# Altium footprint library РАЗЪЕМЫ-MM.PcbLib: 85 footprints (part 1 of 6)
Each footprint in its own frame and in the unit in brackets; x right, y up, seen from the top. Pads: shape width x height; smd on the part's side, far side on the other; paste and mask are expansions set on the pad; w line width, h text height; cw(c..) or ccw(c..) is an arc to the next point about the centre after c.
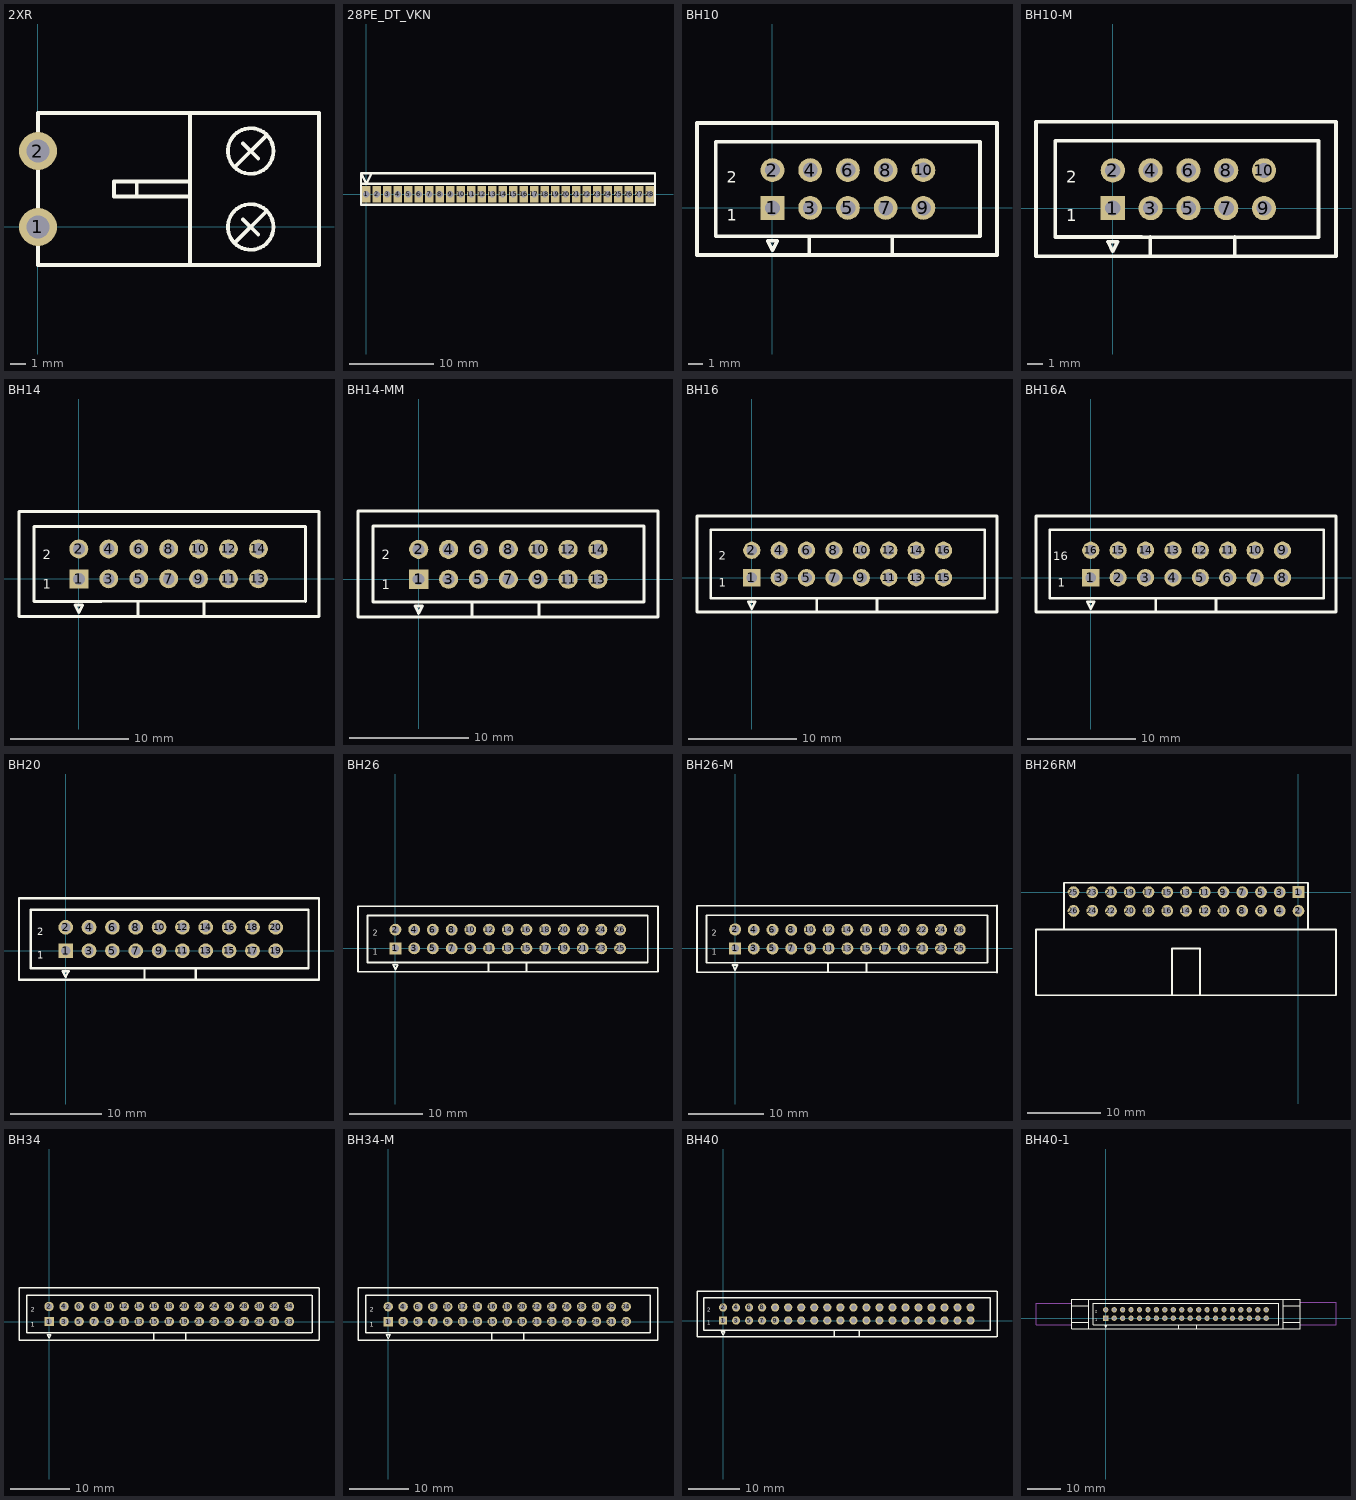
[diagram p0: the footprints below, top view; thin cyan lines are the x and y axes]

## 2XR [mm]
pads (2):
  round 2.5 hole 1.5: 1(0,0) 2(0,5)
Top Overlay:
  circle w0.25: c14,5 r1.5
  circle w0.25: c14,0 r1.5
  lines w0.25: 6.5,2 6.5,3 ; 10,2 5,2 5,3 10,3 ; 13,-1 15,1 ; 13,4 15,6 ; 13.5,0.5 14.5,-0.5 ; 13.5,5.5 14.5,4.5 ; 10,-2.5 18.5,-2.5 18.5,7.5 10,7.5 ; 10,-2.5 0,-2.5 0,7.5 10,7.5 ; 10,-2.5 10,7.5

## 28PE_DT_VKN [mm]
pads (28):
  rect 1x2 hole 0.8: 1(0,0) 2(1.25,0) 3(2.5,0) 4(3.75,0) 5(5,0) 6(6.25,0) 7(7.5,0) 8(8.75,0) 9(10,0) 10(11.25,0) 11(12.5,0) 12(13.75,0) 13(15,0) 14(16.25,0) 15(17.5,0) 16(18.75,0) 17(20,0) 18(21.25,0) 19(22.5,0) 20(23.75,0) 21(25,0) 22(26.25,0) 23(27.5,0) 24(28.75,0) 25(30,0) 26(31.25,0) 27(32.5,0) 28(33.75,0)
Top Overlay:
  lines w0.25: -0.625,1.25 34.375,1.25 ; 0.625,2.5 0,1.25 -0.625,2.5 ; -0.625,2.5 34.375,2.5 34.375,-1.25 -0.625,-1.25 -0.625,2.5

## BH10 [mm]
pads (10):
  rect 1.6x1.6 hole 1: 1(0,0)
  round 1.6 hole 1: 2(0,2.54) 3(2.54,0) 4(2.54,2.54) 5(5.08,0) 6(5.08,2.54) 7(7.62,0) 8(7.62,2.54) 9(10.16,0) 10(10.16,2.54)
Top Overlay:
  lines w0.25: 2.476,-3.175 2.476,-1.905 ; 8.064,-3.175 8.064,-1.905 ; -5.08,-3.175 15.113,-3.175 15.113,5.715 6.985,5.715 -5.08,5.715 -5.08,-3.175 ; -3.81,-1.905 1.905,-1.905 13.97,-1.905 13.97,4.445 -3.81,4.445 -3.81,-1.905 ; -0.318,-2.222 0.318,-2.222 0,-2.857 -0.318,-2.222
  text "2" at -3.08,1.683 h0.79
  text "1" at -3.08,-0.857 h0.79

## BH10-M [mm]
pads (10):
  rect 1.6x1.6 hole 1: 1(0,0)
  round 1.6 hole 1: 2(0,2.5) 3(2.5,0) 4(2.5,2.5) 5(5,0) 6(5,2.5) 7(7.5,0) 8(7.5,2.5) 9(10,0) 10(10,2.5)
Top Overlay:
  lines w0.25: 2.476,-3.175 2.476,-1.905 ; 8.064,-3.175 8.064,-1.905 ; 13.6,4.43 13.61,-1.83 ; 13.6,4.46 -3.81,4.445 -3.81,-1.905 1.905,-1.905 13.61,-1.92 ; 14.73,-3.19 -5.08,-3.175 -5.08,5.715 6.985,5.715 14.73,5.72 ; 14.763,-3.175 14.763,5.715 ; -0.318,-2.222 0.318,-2.222 0,-2.857 -0.318,-2.222
  text "2" at -3.08,1.683 h0.79
  text "1" at -3.08,-0.857 h0.79

## BH14 [mm]
pads (14):
  rect 1.6x1.6 hole 1: 1(0,0)
  round 1.6 hole 1: 2(0,2.54) 3(2.54,0) 4(2.54,2.54) 5(5.08,0) 6(5.08,2.54) 7(7.62,0) 8(7.62,2.54) 9(10.16,0) 10(10.16,2.54) 11(12.7,0) 12(12.7,2.54) 13(15.24,0) 14(15.24,2.54)
Top Overlay:
  lines w0.25: 5.016,-3.175 5.016,-1.905 ; 10.604,-3.175 10.604,-1.905 ; 16.891,4.445 19.22,4.44 ; 17.145,4.445 -3.81,4.445 -3.81,-1.905 1.905,-1.905 19.22,-1.89 ; 18.161,5.715 20.33,5.7 ; 18.415,5.715 6.985,5.715 -5.08,5.715 -5.08,-3.175 20.38,-3.19 ; 19.231,-1.905 19.231,4.445 ; 20.374,-3.175 20.374,5.715 ; -0.318,-2.222 0.318,-2.222 0,-2.857 -0.318,-2.222
  text "2" at -3.08,1.683 h0.79
  text "1" at -3.08,-0.857 h0.79

## BH14-MM [mm]
pads (14):
  rect 1.6x1.6 hole 1: 1(0,0)
  round 1.6 hole 1: 2(0,2.5) 3(2.5,0) 4(2.5,2.5) 5(5,0) 6(5,2.5) 7(7.5,0) 8(7.5,2.5) 9(10,0) 10(10,2.5) 11(12.5,0) 12(12.5,2.5) 13(15,0) 14(15,2.5)
Top Overlay:
  lines w0.25: 4.477,-3.155 4.477,-1.885 ; 10.065,-3.155 10.065,-1.885 ; 16.89,4.45 18.85,4.45 ; 17.145,4.445 -3.81,4.445 -3.81,-1.905 1.905,-1.905 18.85,-1.89 ; 18.161,5.725 19.99,5.72 ; 18.415,5.715 6.985,5.715 -5.08,5.715 -5.08,-3.175 20.01,-3.14 ; 18.85,-1.9 18.851,4.415 ; 20.02,-3.14 20.024,5.715 ; -0.318,-2.222 0,-2.857 0.318,-2.222 -0.318,-2.222
  text "2" at -3.08,1.683 h0.79
  text "1" at -3.08,-0.857 h0.79

## BH16 [mm]
pads (16):
  rect 1.6x1.6 hole 1: 1(0,0)
  round 1.6 hole 1: 2(0,2.54) 3(2.54,0) 4(2.54,2.54) 5(5.08,0) 6(5.08,2.54) 7(7.62,0) 8(7.62,2.54) 9(10.16,0) 10(10.16,2.54) 11(12.7,0) 12(12.7,2.54) 13(15.24,0) 14(15.24,2.54) 15(17.78,0) 16(17.78,2.54)
Top Overlay:
  lines w0.25: 6.027,-3.175 6.027,-1.905 ; 11.615,-3.175 11.615,-1.905 ; 16.891,4.445 21.59,4.445 21.59,-1.905 1.905,-1.905 -3.81,-1.905 -3.81,4.445 17.145,4.445 ; 18.161,5.715 22.733,5.715 22.733,-3.175 -5.08,-3.175 -5.08,5.715 6.985,5.715 18.415,5.715 ; -0.318,-2.222 0.318,-2.222 0,-2.857 -0.318,-2.222
  text "2" at -3.08,1.683 h0.79
  text "1" at -3.08,-0.857 h0.79

## BH16A [mm]
pads (16):
  rect 1.6x1.6 hole 1: 1(0,0)
  round 1.6 hole 1: 2(2.54,0) 3(5.08,0) 4(7.62,0) 5(10.16,0) 6(12.7,0) 7(15.24,0) 8(17.78,0) 9(17.78,2.54) 10(15.24,2.54) 11(12.7,2.54) 12(10.16,2.54) 13(7.62,2.54) 14(5.08,2.54) 15(2.54,2.54) 16(0,2.54)
Top Overlay:
  lines w0.25: 6.027,-3.175 6.027,-1.905 ; 11.615,-3.175 11.615,-1.905 ; 16.891,4.445 21.59,4.445 21.59,-1.905 1.905,-1.905 -3.81,-1.905 -3.81,4.445 17.145,4.445 ; 18.161,5.715 22.733,5.715 22.733,-3.175 -5.08,-3.175 -5.08,5.715 6.985,5.715 18.415,5.715 ; -0.318,-2.222 0.318,-2.222 0,-2.857 -0.318,-2.222
  text "16" at -3.477,1.603 h0.79
  text "1" at -3.08,-0.857 h0.79

## BH20 [mm]
pads (20):
  rect 1.6x1.6 hole 1: 1(0,0)
  round 1.6 hole 1: 2(0,2.54) 3(2.54,0) 4(2.54,2.54) 5(5.08,0) 6(5.08,2.54) 7(7.62,0) 8(7.62,2.54) 9(10.16,0) 10(10.16,2.54) 11(12.7,0) 12(12.7,2.54) 13(15.24,0) 14(15.24,2.54) 15(17.78,0) 16(17.78,2.54) 17(20.32,0) 18(20.32,2.54) 19(22.86,0) 20(22.86,2.54)
Top Overlay:
  lines w0.25: 8.567,-3.175 8.567,-1.905 ; 14.155,-3.175 14.155,-1.905 ; 16.891,4.445 26.416,4.445 26.416,-1.905 1.905,-1.905 -3.81,-1.905 -3.81,4.445 17.145,4.445 ; 18.161,5.715 27.559,5.715 27.559,-3.175 -5.08,-3.175 -5.08,5.715 6.985,5.715 18.415,5.715 ; -0.318,-2.222 0.318,-2.222 0,-2.857 -0.318,-2.222
  text "2" at -3.08,1.683 h0.79
  text "1" at -3.08,-0.857 h0.79

## BH26 [mm]
pads (26):
  rect 1.6x1.6 hole 1: 1(0,0)
  round 1.6 hole 1: 2(0,2.54) 3(2.54,0) 4(2.54,2.54) 5(5.08,0) 6(5.08,2.54) 7(7.62,0) 8(7.62,2.54) 9(10.16,0) 10(10.16,2.54) 11(12.7,0) 12(12.7,2.54) 13(15.24,0) 14(15.24,2.54) 15(17.78,0) 16(17.78,2.54) 17(20.32,0) 18(20.32,2.54) 19(22.86,0) 20(22.86,2.54) 21(25.4,0) 22(25.4,2.54) 23(27.94,0) 24(27.94,2.54) 25(30.48,0) 26(30.48,2.54)
Top Overlay:
  lines w0.25: 12.636,-3.175 12.636,-1.905 ; 17.78,-3.175 17.78,-1.905 ; 34.163,-1.905 1.905,-1.905 -3.81,-1.905 -3.81,4.445 17.145,4.445 34.163,4.445 ; 34.227,-1.905 34.227,4.445 ; 35.56,-3.175 30.48,-3.175 -5.08,-3.175 -5.08,5.715 6.985,5.715 18.415,5.715 35.56,5.715 ; 35.623,-3.175 35.623,5.715 ; -0.318,-2.222 0.318,-2.222 0,-2.857 -0.318,-2.222
  text "2" at -3.08,1.683 h0.79
  text "1" at -3.08,-0.857 h0.79

## BH26-M [mm]
pads (26):
  rect 1.6x1.6 hole 1: 1(0,0)
  round 1.6 hole 1: 2(0,2.54) 3(2.5,0) 4(2.5,2.5) 5(5,0) 6(5,2.5) 7(7.5,0) 8(7.5,2.5) 9(10,0) 10(10,2.5) 11(12.5,0) 12(12.5,2.5) 13(15,0) 14(15,2.5) 15(17.5,0) 16(17.5,2.5) 17(20,0) 18(20,2.5) 19(22.5,0) 20(22.5,2.5) 21(25,0) 22(25,2.5) 23(27.5,0) 24(27.5,2.5) 25(30,0) 26(30,2.5)
Top Overlay:
  lines w0.25: 12.417,-3.165 12.417,-1.895 ; 17.56,-3.165 17.56,-1.895 ; 33.7,-1.89 1.905,-1.905 -3.81,-1.905 -3.81,4.445 17.145,4.445 33.7,4.43 ; 33.717,-1.875 33.72,4.41 ; 34.96,-3.17 30.48,-3.175 -5.08,-3.175 -5.08,5.715 6.985,5.715 18.415,5.715 34.96,5.72 ; 34.973,-3.185 34.973,5.705 ; -0.318,-2.222 0.318,-2.222 0,-2.857 -0.318,-2.222
  text "2" at -3.08,1.683 h0.79
  text "1" at -3.08,-0.857 h0.79

## BH26RM [mm]
pads (26):
  rect 1.6x1.6 hole 1: 1(0,0)
  round 1.6 hole 1: 2(0,-2.54) 3(-2.54,0) 4(-2.54,-2.54) 5(-5.08,0) 6(-5.08,-2.54) 7(-7.62,0) 8(-7.62,-2.54) 9(-10.16,0) 10(-10.16,-2.54) 11(-12.7,0) 12(-12.7,-2.54) 13(-15.24,0) 14(-15.24,-2.54) 15(-17.78,0) 16(-17.78,-2.54) 17(-20.32,0) 18(-20.32,-2.54) 19(-22.86,0) 20(-22.86,-2.54) 21(-25.4,0) 22(-25.4,-2.54) 23(-27.94,0) 24(-27.94,-2.54) 25(-30.48,0) 26(-30.48,-2.54)
Top Overlay:
  lines w0.254: -31.75,-5.08 -31.75,1.27 1.27,1.27 1.27,-5.08 ; -17.145,-13.97 -17.145,-7.62 -13.335,-7.62 -13.335,-13.97 ; -35.56,-13.97 5.08,-13.97 5.08,-5.08 -35.56,-5.08 -35.56,-13.97

## BH34 [mm]
pads (34):
  rect 1.6x1.6 hole 1: 1(0,0)
  round 1.6 hole 1: 2(0,2.54) 3(2.54,0) 4(2.54,2.54) 5(5.08,0) 6(5.08,2.54) 7(7.62,0) 8(7.62,2.54) 9(10.16,0) 10(10.16,2.54) 11(12.7,0) 12(12.7,2.54) 13(15.24,0) 14(15.24,2.54) 15(17.78,0) 16(17.78,2.54) 17(20.32,0) 18(20.32,2.54) 19(22.86,0) 20(22.86,2.54) 21(25.4,0) 22(25.4,2.54) 23(27.94,0) 24(27.94,2.54) 25(30.48,0) 26(30.48,2.54) 27(33.02,0) 28(33.02,2.54) 29(35.56,0) 30(35.56,2.54) 31(38.1,0) 32(38.1,2.54) 33(40.64,0) 34(40.64,2.54)
Top Overlay:
  lines w0.25: 17.685,-3.175 17.685,-1.905 ; 23.082,-3.175 23.082,-1.905 ; 44.45,-1.905 1.905,-1.905 -3.81,-1.905 -3.81,4.445 17.145,4.445 41.275,4.445 44.45,4.445 ; 44.514,-1.905 44.514,4.445 ; 45.593,-3.175 40.64,-3.175 30.48,-3.175 -5.08,-3.175 -5.08,5.715 6.985,5.715 18.415,5.715 45.593,5.715 ; 45.657,-3.175 45.657,5.715 ; -0.318,-2.222 0.318,-2.222 0,-2.857 -0.318,-2.222
  text "2" at -3.08,1.683 h0.79
  text "1" at -3.08,-0.857 h0.79

## BH34-M [mm]
pads (34):
  rect 1.6x1.6 hole 1: 1(0,0)
  round 1.6 hole 1: 2(0,2.5) 3(2.5,0) 4(2.5,2.5) 5(5,0) 6(5,2.5) 7(7.5,0) 8(7.5,2.5) 9(10,0) 10(10,2.5) 11(12.5,0) 12(12.5,2.5) 13(15,0) 14(15,2.5) 15(17.5,0) 16(17.5,2.5) 17(20,0) 18(20,2.5) 19(22.5,0) 20(22.5,2.5) 21(25,0) 22(25,2.5) 23(27.5,0) 24(27.5,2.5) 25(30,0) 26(30,2.5) 27(32.5,0) 28(32.5,2.5) 29(35,0) 30(35,2.5) 31(37.5,0) 32(37.5,2.5) 33(40,0) 34(40,2.5)
Top Overlay:
  lines w0.25: 17.414,-3.135 17.414,-1.865 ; 22.812,-3.135 22.812,-1.865 ; 44.02,4.45 41.275,4.445 17.145,4.445 -3.81,4.445 -3.81,-1.905 1.905,-1.905 44.05,-1.91 ; 44.054,-1.905 44.054,4.445 ; 45.32,-3.18 40.64,-3.175 30.48,-3.175 -5.08,-3.175 -5.08,5.715 6.985,5.715 18.415,5.715 45.34,5.72 ; 45.337,-3.165 45.337,5.725 ; -0.318,-2.222 0.318,-2.222 0,-2.857 -0.318,-2.222
  text "2" at -3.08,1.683 h0.79
  text "1" at -3.08,-0.857 h0.79

## BH40 [mm]
pads (40):
  rect 1.6x1.6 hole 1: 1(0,0)
  round 1.6 hole 1: 2(0,2.54) 3(2.54,0) 4(2.54,2.54) 5(5.08,0) 6(5.08,2.54) 7(7.62,0) 8(7.62,2.54) 9(10.16,0) 10(10.16,2.54) 11(12.7,0) 12(12.7,2.54) 13(15.24,0) 14(15.24,2.54) 15(17.78,0) 16(17.78,2.54) 17(20.32,0) 18(20.32,2.54) 19(22.86,0) 20(22.86,2.54) 21(25.4,0) 22(25.4,2.54) 23(27.94,0) 24(27.94,2.54) 25(30.48,0) 26(30.48,2.54) 27(33.02,0) 28(33.02,2.54) 29(35.56,0) 30(35.56,2.54) 31(38.1,0) 32(38.1,2.54) 33(40.64,0) 34(40.64,2.54) 35(43.18,0) 36(43.18,2.54) 37(45.72,0) 38(45.72,2.54) 39(48.26,0) 40(48.26,2.54)
Top Overlay:
  lines w0.25: 21.653,-3.175 21.653,-1.905 ; 26.543,-3.175 26.543,-1.905 ; 52.07,-1.905 51.117,-1.905 50.8,-1.905 1.905,-1.905 -3.81,-1.905 -3.81,4.445 17.145,4.445 41.275,4.445 52.07,4.445 ; 52.133,-1.905 52.133,4.445 ; 53.34,-3.175 40.64,-3.175 30.48,-3.175 -5.08,-3.175 -5.08,5.715 6.985,5.715 18.415,5.715 53.34,5.715 ; 53.404,-3.175 53.404,5.715 ; -0.318,-2.222 0.318,-2.222 0,-2.857 -0.318,-2.222
  text "2" at -3.08,1.683 h0.79
  text "1" at -3.08,-0.857 h0.79

## BH40-1 [mm]
pads (40):
  rect 1.6x1.6 hole 1: 1(0,0)
  round 1.6 hole 1: 2(0,2.54) 3(2.54,0) 4(2.54,2.54) 5(5.08,0) 6(5.08,2.54) 7(7.62,0) 8(7.62,2.54) 9(10.16,0) 10(10.16,2.54) 11(12.7,0) 12(12.7,2.54) 13(15.24,0) 14(15.24,2.54) 15(17.78,0) 16(17.78,2.54) 17(20.32,0) 18(20.32,2.54) 19(22.86,0) 20(22.86,2.54) 21(25.4,0) 22(25.4,2.54) 23(27.94,0) 24(27.94,2.54) 25(30.48,0) 26(30.48,2.54) 27(33.02,0) 28(33.02,2.54) 29(35.56,0) 30(35.56,2.54) 31(38.1,0) 32(38.1,2.54) 33(40.64,0) 34(40.64,2.54) 35(43.18,0) 36(43.18,2.54) 37(45.72,0) 38(45.72,2.54) 39(48.26,0) 40(48.26,2.54)
Top Overlay:
  lines w0.254: -10.16,-1.27 -5.08,-1.27 ; -10.16,3.81 -5.08,3.81 ; 21.907,-3.175 21.907,-1.905 ; 27.305,-3.175 27.305,-1.905 ; 52.08,-1.89 51.117,-1.905 50.8,-1.905 1.905,-1.905 -3.81,-1.905 -3.81,4.445 17.145,4.445 41.275,4.445 52.08,4.44 ; 52.092,-1.905 52.092,4.445 ; 53.045,5.715 53.362,5.715 ; 53.362,-1.27 58.442,-1.27 ; 53.362,3.81 58.442,3.81 ; 53.975,5.715 18.415,5.715 6.985,5.715 -5.08,5.715 ; 54.292,-3.175 40.64,-3.175 30.48,-3.175 -5.08,-3.175 ; -5.08,-3.175 -5.08,5.715 ; -5.08,-3.175 -10.16,-3.175 -10.16,5.715 -5.08,5.715 ; 53.362,5.715 58.442,5.715 58.442,-3.175 53.362,-3.175 53.362,5.715 ; -0.318,-2.222 0.318,-2.222 0,-2.857 -0.318,-2.222
  text "2" at -3.08,1.683 h0.79
  text "1" at -3.08,-0.857 h0.79
Mechanical 1:
  lines w0.254: -10.16,-1.905 -20.955,-1.905 -20.955,4.445 -10.16,4.445 ; 58.442,-1.905 69.237,-1.905 69.237,4.763 58.442,4.763